# EAGLE library part 6620XX11124_66200611124 (library WR-MPC3)
WR-MPC3 3.00mm Male Header Single Row Vertical - THT - Selective Gold Kind Properties Pitch 3 mm Rows Single Type Vertical Operating Temperature -40 up to +105 °C Durability 75 Mating cycles Material Properties Insulator Material LCP Insulator Color Black Insulator Flammability Rating UL94 V-0 Pin Material Copper Alloy Pin Plating Selective Gold Electrical Properties IR 5 A Working Voltage 250 V (AC) Withstanding Voltage 1500 V (AC) Contact Resistance 10 mΩ Packaging Properties Packaging Tube Certification UL Approval E323964 <https://www.we-online.com/components/media/o727040v209%206620xx11122_Multi-Parts.jpg> Details see: www.we-online.com/components/products/WR-MPC3_3_00MM_MALE_HEADER_SINGLE_ROW_VERTICAL_THT_SELECTIVE_GOLD <www.we-online.com/catalog/WR-MPC3_3_00MM_MALE_HEADER_SINGLE_ROW_VERTICAL_THT_SELECTIVE_GOLD/?utm_source=eagle_model&utm_medium=description_link&utm_campaign=eisos_eagle> Created by Ella Wu 2023-10-12 2023 (C) Würth Elektronik
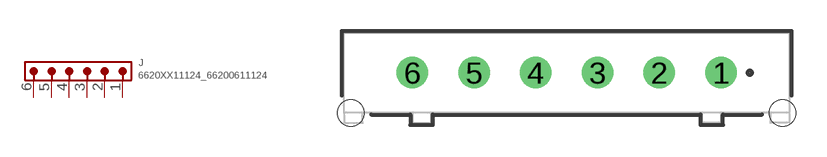
[diagram p129: symbol with the pads of 66200611124; footprint 66200611124]

Designator prefix J

## 6620XX11124_66200611124 (CONTACT-RESISTANCE: 10Ohm; DATASHEET-URL: https://www.we-online.com/redexpert/spec/66200611124?ae; GENDER: Male; IR: 5A; MOUNT: THT; PART-NUMBER: 66200611124; PINS: 6; PITCH: 3mm; ROWS: Single; TOL-R: max.; TYPE: Vertical; VALUE: 66200611124; WORKING-VOLTAGE: 250V(AC))  [66200611124]
1  1  pas
2  2  pas
3  3  pas
4  4  pas
5  5  pas
6  6  pas

## Footprint 66200611124 (pad centres in mm)
WR-MPC3 3.00mm Male Header Single Row Vertical - THT - Selective Gold 6 Pins
drill 1.02: 1 7.5,0; 2 4.5,0; 3 1.5,0; 4 -1.5,0; 5 -4.5,0; 6 -7.5,0
hole 1.27 at 10.5,-1.96
hole 1.27 at -10.5,-1.96